# Altium footprint library RectangularConnectors.PcbLib: 154 footprints (part 2 of 10)
Each footprint in its own frame and in the unit in brackets; x right, y up, seen from the top. Pads: shape width x height; smd on the part's side, far side on the other; paste and mask are expansions set on the pad; w line width, h text height; cw(c..) or ccw(c..) is an arc to the next point about the centre after c.
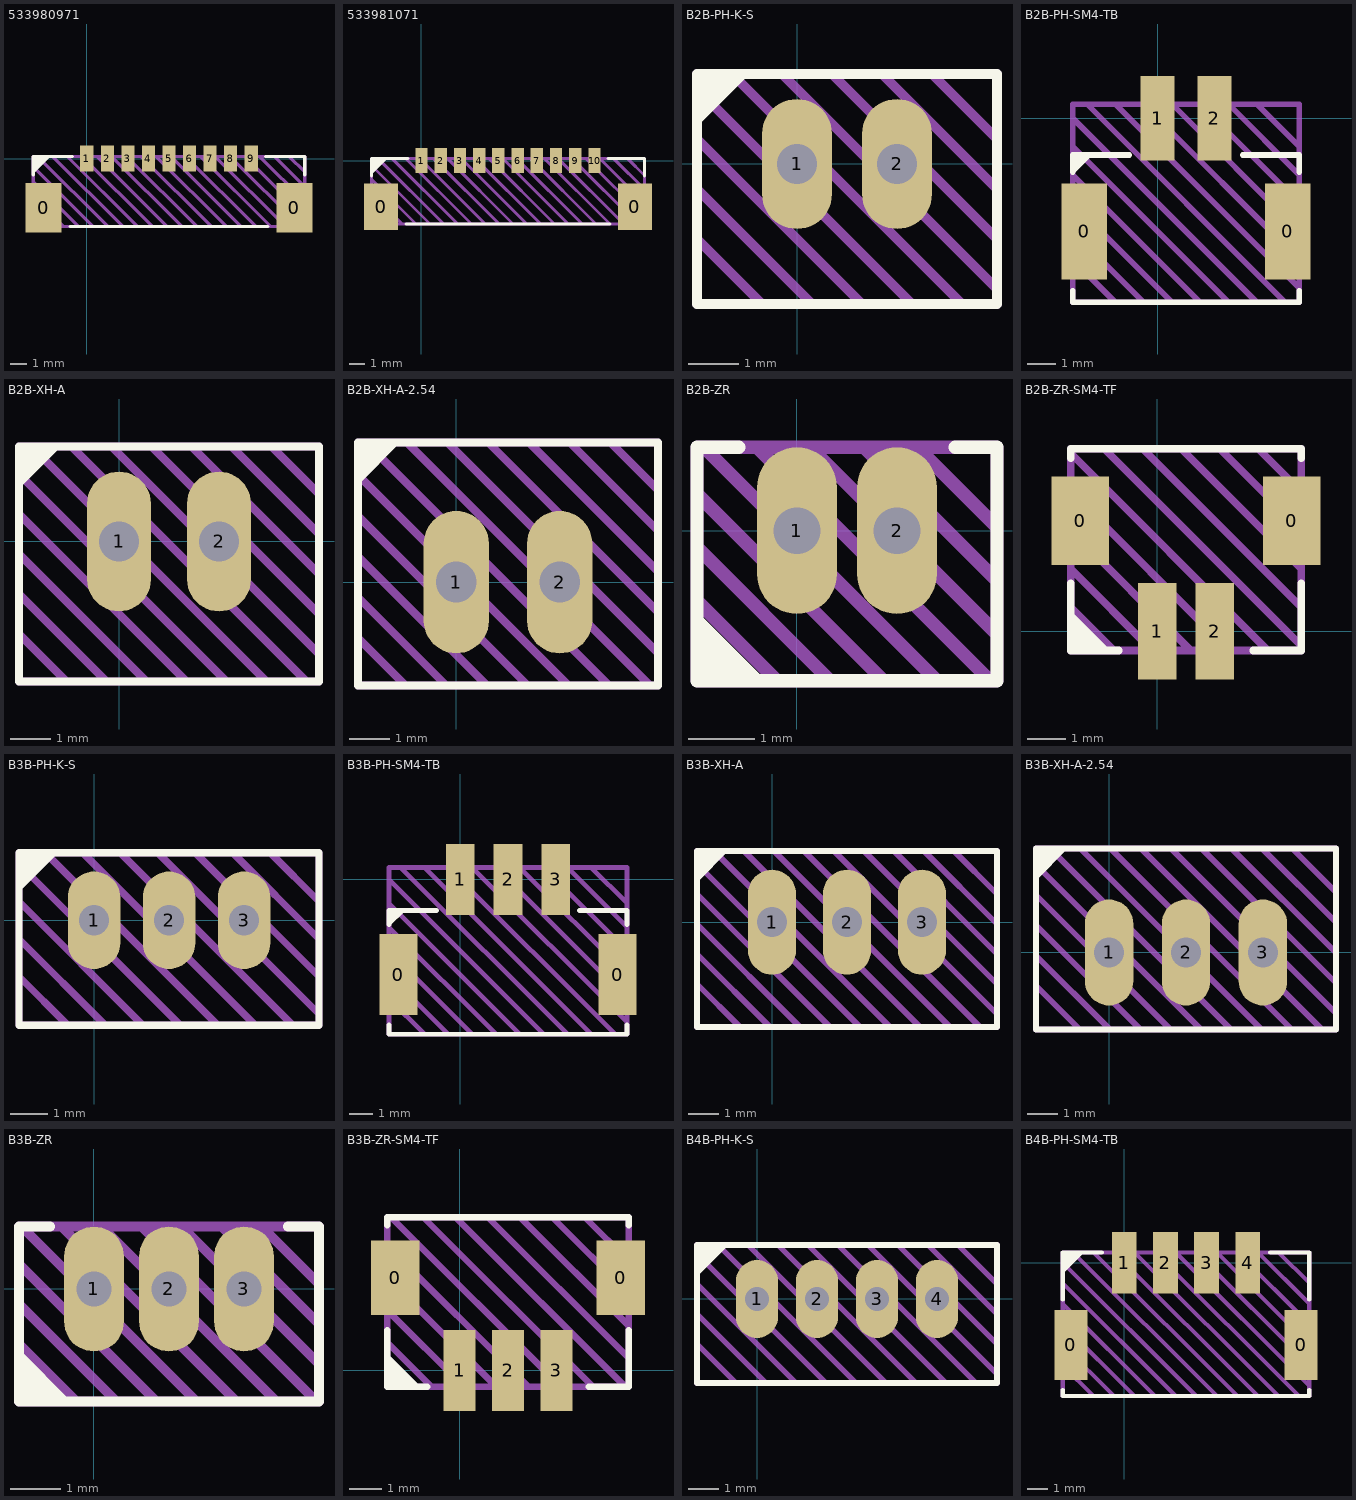
[diagram p1: the footprints below, top view; thin cyan lines are the x and y axes]

## 533980971 [mm] "Molex PicoBlade 1.25mm Straight"
pads (11):
  rect 2.2x3 smd: 0(-2.625,-3) 0(12.625,-3)
  rect 0.8x1.6 smd: 1(0,0) 2(1.25,0) 3(2.5,0) 4(3.75,0) 5(5,0) 6(6.25,0) 7(7.5,0) 8(8.75,0) 9(10,0)
Top Overlay:
  region: -3.25,-0.915 -2.21,0.125 -3.25,0.125
  lines w0.2: -3.25,-1 -3.25,0.125 -0.875,0.125 ; -1,-4.125 11,-4.125 ; 10.875,0.125 13.25,0.125 13.25,-1
Top Draw:
  lines w0.2: -3.25,-3.2 -2.325,-4.125 ; -3.25,-2.3 -1.425,-4.125 ; -3.25,-1.4 -0.525,-4.125 ; -3.25,-0.5 0.375,-4.125 ; -2.975,0.125 1.275,-4.125 ; -2.075,0.125 2.175,-4.125 ; -1.175,0.125 3.075,-4.125 ; -0.275,0.125 3.975,-4.125 ; 0.625,0.125 4.875,-4.125 ; 1.525,0.125 5.775,-4.125 ; 2.425,0.125 6.675,-4.125 ; 3.325,0.125 7.575,-4.125 ; 4.225,0.125 8.475,-4.125 ; 5.125,0.125 9.375,-4.125 ; 6.025,0.125 10.275,-4.125 ; 6.925,0.125 11.175,-4.125 ; 7.825,0.125 12.075,-4.125 ; 8.725,0.125 12.975,-4.125 ; 9.625,0.125 13.25,-3.5 ; 10.525,0.125 13.25,-2.6 ; 11.425,0.125 13.25,-1.7 ; 12.325,0.125 13.25,-0.8 ; -3.25,-4.125 -3.25,0.125 13.25,0.125 13.25,-4.125 -3.25,-4.125
Top Info:
  text "'.Comment'" at 1.814,-5.687 h0.75
3D body "533980971.step": height 4.7, standoff 0, extent -3.2,-4.075 13.2,0.125

## 533981071 [mm] "Molex PicoBlade 1.25mm Straight"
pads (12):
  rect 2.2x3 smd: 0(-2.625,-3) 0(13.875,-3)
  rect 0.8x1.6 smd: 1(0,0) 2(1.25,0) 3(2.5,0) 4(3.75,0) 5(5,0) 6(6.25,0) 7(7.5,0) 8(8.75,0) 9(10,0) 10(11.25,0)
Top Overlay:
  region: -3.25,-0.915 -2.21,0.125 -3.25,0.125
  lines w0.2: -3.25,-1 -3.25,0.125 -0.875,0.125 ; -1,-4.125 12.25,-4.125 ; 12.125,0.125 14.5,0.125 14.5,-1
Top Draw:
  lines w0.2: -3.25,-3.025 -2.15,-4.125 ; -3.25,-2.125 -1.25,-4.125 ; -3.25,-1.225 -0.35,-4.125 ; -3.25,-0.325 0.55,-4.125 ; -2.8,0.125 1.45,-4.125 ; -1.9,0.125 2.35,-4.125 ; -1,0.125 3.25,-4.125 ; -0.1,0.125 4.15,-4.125 ; 0.8,0.125 5.05,-4.125 ; 1.7,0.125 5.95,-4.125 ; 2.6,0.125 6.85,-4.125 ; 3.5,0.125 7.75,-4.125 ; 4.4,0.125 8.65,-4.125 ; 5.3,0.125 9.55,-4.125 ; 6.2,0.125 10.45,-4.125 ; 7.1,0.125 11.35,-4.125 ; 8,0.125 12.25,-4.125 ; 8.9,0.125 13.15,-4.125 ; 9.8,0.125 14.05,-4.125 ; 10.7,0.125 14.5,-3.675 ; 11.6,0.125 14.5,-2.775 ; 12.5,0.125 14.5,-1.875 ; 13.4,0.125 14.5,-0.975 ; -3.25,-4.125 14.5,-4.125 14.5,0.125 -3.25,0.125 -3.25,-4.125
Top Info:
  text "'.Comment'" at 2.439,-5.687 h0.75
3D body "533981071.step": height 4.7, standoff 0, extent -3.2,-4.075 14.45,0.125

## B2B-PH-K-S [mm] "PH2.0 PTH Straight"
pads (2):
  oval 1.4x2.6 hole 0.8: 1(0,0) 2(2,0)
Top Overlay:
  region: -2,0.76 -0.96,1.8 -2,1.8
  lines w0.2: -2,-2.8 4,-2.8 4,1.8 -2,1.8 -2,-2.8
Top Draw:
  lines w0.2: -2,-1.5 -0.7,-2.8 ; -2,-0.5 0.3,-2.8 ; -2,0.5 1.3,-2.8 ; -2,1.5 2.3,-2.8 ; -1.3,1.8 3.3,-2.8 ; -0.3,1.8 4,-2.5 ; 0.7,1.8 4,-1.5 ; 1.7,1.8 4,-0.5 ; 2.7,1.8 4,0.5 ; -2,-2.8 4,-2.8 4,1.8 -2,1.8 -2,-2.8
Top Info:
  text "'.Comment'" at -3.249,-4.283 h1
3D body "B2B-PH-K-S.stp": height 6.02, standoff -3.38, extent -1.95,-2.8 3.95,1.8

## B2B-PH-SM4-TB [mm] "PH2.0 SMT Straight"
pads (4):
  rect 1.6x3.4 smd: 0(-2.6,-4) 0(4.6,-4)
  rect 1.2x3 smd: 1(0,0) 2(2,0)
Top Overlay:
  region: -3,-1.995 -2.305,-1.3 -3,-1.3
  lines w0.2: -3,-6.1 -3,-6.5 5,-6.5 5,-6.1 ; -3,-1.9 -3,-1.3 -1,-1.3 ; 3,-1.3 5,-1.3 5,-1.9
Top Draw:
  lines w0.2: -3,-5 -1.5,-6.5 ; -3,-4 -0.5,-6.5 ; -3,-3 0.5,-6.5 ; -3,-2 1.5,-6.5 ; -3,-1 2.5,-6.5 ; -3,0 3.5,-6.5 ; -2.5,0.5 4.5,-6.5 ; -1.5,0.5 5,-6 ; -0.5,0.5 5,-5 ; 0.5,0.5 5,-4 ; 1.5,0.5 5,-3 ; 2.5,0.5 5,-2 ; 3.5,0.5 5,-1 ; -3,-6.5 5,-6.5 5,0.5 -3,0.5 -3,-6.5
Top Info:
  text "'.Comment'" at -3.249,-7.983 h1
3D body "B2B-PH-SM4-TB.step": height 6.62, standoff 0.02, extent -2.975,-6.5 4.975,0.5

## B2B-XH-A [mm] "XH2.5 PTH Straight"
pads (2):
  oval 1.6x3.5 hole 1: 1(0,0) 2(2.5,0)
Top Overlay:
  region: -2.5,1.335 -1.46,2.375 -2.5,2.375
  lines w0.2: -2.5,-3.5 -2.5,2.375 5,2.375 5,-3.5 -2.5,-3.5
Top Draw:
  lines w0.2: -2.5,-2.313 -1.313,-3.5 ; -2.5,-1.313 -0.313,-3.5 ; -2.5,-0.313 0.687,-3.5 ; -2.5,0.687 1.687,-3.5 ; -2.5,1.687 2.687,-3.5 ; -2.187,2.375 3.688,-3.5 ; -1.188,2.375 4.687,-3.5 ; -0.187,2.375 5,-2.813 ; 0.813,2.375 5,-1.812 ; 1.813,2.375 5,-0.813 ; 2.813,2.375 5,0.188 ; 3.813,2.375 5,1.188 ; -2.5,-3.5 -2.5,2.375 5,2.375 5,-3.5 -2.5,-3.5
Top Info:
  text "'.Comment'" at -2.999,-4.958 h1
3D body "B2B-XH-A.step": height 7.02, standoff -3.48, extent -2.45,-3.4 4.95,2.35

## B2B-XH-A-2.54 [mm] "XH2.54 PTH Straight"
pads (2):
  oval 1.6x3.5 hole 1: 1(0,0) 2(2.54,0)
Top Overlay:
  region: -2.413,2.389 -1.373,3.429 -2.413,3.429
  lines w0.2: -2.413,-2.54 -2.413,3.429 4.953,3.429 4.953,-2.54 -2.413,-2.54
Top Draw:
  lines w0.2: -2.413,-1.373 -1.246,-2.54 ; -2.413,-0.373 -0.246,-2.54 ; -2.413,0.627 0.754,-2.54 ; -2.413,1.627 1.754,-2.54 ; -2.413,2.627 2.754,-2.54 ; -2.214,3.429 3.755,-2.54 ; -1.215,3.429 4.754,-2.54 ; -0.214,3.429 4.953,-1.738 ; 0.786,3.429 4.953,-0.738 ; 1.786,3.429 4.953,0.262 ; 2.786,3.429 4.953,1.262 ; 3.786,3.429 4.953,2.262 ; -2.413,-2.54 4.953,-2.54 4.953,3.429 -2.413,3.429 -2.413,-2.54
Top Info:
  text "'.Comment'" at -2.979,-4.012 h1
3D body "JST - XH - Thru (V) - 2Pin - 2.54mm.stp": height 7.21, standoff -3, extent -2.337,-2.489 4.877,3.353

## B2B-ZR [mm] "ZH1.5 PTH Straight"
pads (2):
  oval 1.2x2.5 hole 0.7: 1(0,0) 2(1.5,0)
Top Overlay:
  region: -0.46,-2.25 -1.5,-1.21 -1.5,-2.25
  lines w0.2: -0.875,1.25 -1.5,1.25 -1.5,-2.25 3,-2.25 3,1.25 2.375,1.25
Top Draw:
  lines w0.2: -1.5,-1.05 -0.3,-2.25 ; -1.5,-0.25 0.5,-2.25 ; -1.5,0.55 1.3,-2.25 ; -1.4,1.25 2.1,-2.25 ; -0.6,1.25 2.9,-2.25 ; 0.2,1.25 3,-1.55 ; 1,1.25 3,-0.75 ; 1.8,1.25 3,0.05 ; -1.5,-2.25 -1.5,1.25 3,1.25 3,-2.25 -1.5,-2.25
Top Info:
  text "'.Comment'" at -2.436,-3.437 h0.75
3D body "B2B-ZR.step": height 4.52, standoff -2.68, extent -1.5,-2.2 3,1.3

## B2B-ZR-SM4-TF [mm] "ZH1.5 SMT Straight"
pads (4):
  rect 1.5x2.3 smd: 0(-2,2.875) 0(3.5,2.875)
  rect 1x2.5 smd: 1(0,0) 2(1.5,0)
Top Overlay:
  region: -1.21,-0.5 -2.25,0.54 -2.25,-0.5
  lines w0.2: -2.25,1.25 -2.25,-0.5 -1,-0.5 ; -2.25,4.5 -2.25,4.75 3.75,4.75 3.75,4.5 ; 2.5,-0.5 3.75,-0.5 3.75,1.25
Top Draw:
  lines w0.2: -2.25,0.625 -1.125,-0.5 ; -2.25,1.625 -0.125,-0.5 ; -2.25,2.625 0.875,-0.5 ; -2.25,3.625 1.875,-0.5 ; -2.25,4.625 2.875,-0.5 ; -1.375,4.75 3.75,-0.375 ; -0.375,4.75 3.75,0.625 ; 0.625,4.75 3.75,1.625 ; 1.625,4.75 3.75,2.625 ; 2.625,4.75 3.75,3.625 ; -2.25,-0.5 -2.25,4.75 3.75,4.75 3.75,-0.5 -2.25,-0.5
Top Info:
  text "'.Comment'" at -2.436,-2.437 h0.75
3D body "B2B-ZR-SM4-TF.step": height 5.02, standoff 0.02, extent -2.25,-0.5 3.75,4.7

## B3B-PH-K-S [mm] "PH2.0 PTH Straight"
pads (3):
  oval 1.4x2.6 hole 0.8: 1(0,0) 2(2,0) 3(4,0)
Top Overlay:
  region: -2,0.76 -0.96,1.8 -2,1.8
  lines w0.2: -2,-2.8 -2,1.8 6,1.8 6,-2.8 -2,-2.8
Top Draw:
  lines w0.2: -2,-1.5 -0.7,-2.8 ; -2,-0.5 0.3,-2.8 ; -2,0.5 1.3,-2.8 ; -2,1.5 2.3,-2.8 ; -1.3,1.8 3.3,-2.8 ; -0.3,1.8 4.3,-2.8 ; 0.7,1.8 5.3,-2.8 ; 1.7,1.8 6,-2.5 ; 2.7,1.8 6,-1.5 ; 3.7,1.8 6,-0.5 ; 4.7,1.8 6,0.5 ; -2,-2.8 -2,1.8 6,1.8 6,-2.8 -2,-2.8
Top Info:
  text "'.Comment'" at -2.249,-4.283 h1
3D body "B3B-PH-K-S.stp": height 6.02, standoff -3.38, extent -1.95,-2.8 5.95,1.8

## B3B-PH-SM4-TB [mm] "PH2.0 SMT Straight"
pads (5):
  rect 1.6x3.4 smd: 0(-2.6,-4) 0(6.6,-4)
  rect 1.2x3 smd: 1(0,0) 2(2,0) 3(4,0)
Top Overlay:
  region: -3,-1.995 -2.305,-1.3 -3,-1.3
  lines w0.2: -3,-6.1 -3,-6.5 7,-6.5 7,-6.1 ; -3,-1.9 -3,-1.3 -1,-1.3 ; 5,-1.3 7,-1.3 7,-1.9
Top Draw:
  lines w0.2: -3,-5 -1.5,-6.5 ; -3,-4 -0.5,-6.5 ; -3,-3 0.5,-6.5 ; -3,-2 1.5,-6.5 ; -3,-1 2.5,-6.5 ; -3,0 3.5,-6.5 ; -2.5,0.5 4.5,-6.5 ; -1.5,0.5 5.5,-6.5 ; -0.5,0.5 6.5,-6.5 ; 0.5,0.5 7,-6 ; 1.5,0.5 7,-5 ; 2.5,0.5 7,-4 ; 3.5,0.5 7,-3 ; 4.5,0.5 7,-2 ; 5.5,0.5 7,-1 ; -3,-6.5 7,-6.5 7,0.5 -3,0.5 -3,-6.5
Top Info:
  text "'.Comment'" at -2.249,-7.983 h1
3D body "B3B-PH-SM4-TB.step": height 6.62, standoff 0.02, extent -2.975,-6.5 6.975,0.5

## B3B-XH-A [mm] "XH2.5 PTH Straight"
pads (3):
  oval 1.6x3.5 hole 1: 1(0,0) 2(2.5,0) 3(5,0)
Top Overlay:
  region: -2.5,1.335 -1.46,2.375 -2.5,2.375
  lines w0.2: -2.5,-3.5 -2.5,2.375 7.5,2.375 7.5,-3.5 -2.5,-3.5
Top Draw:
  lines w0.2: -2.5,-2.063 -1.063,-3.5 ; -2.5,-1.063 -0.063,-3.5 ; -2.5,-0.063 0.937,-3.5 ; -2.5,0.937 1.937,-3.5 ; -2.5,1.937 2.937,-3.5 ; -1.938,2.375 3.937,-3.5 ; -0.937,2.375 4.938,-3.5 ; 0.062,2.375 5.937,-3.5 ; 1.063,2.375 6.938,-3.5 ; 2.063,2.375 7.5,-3.062 ; 3.063,2.375 7.5,-2.063 ; 4.063,2.375 7.5,-1.062 ; 5.063,2.375 7.5,-0.062 ; 6.063,2.375 7.5,0.938 ; -2.5,-3.5 -2.5,2.375 7.5,2.375 7.5,-3.5 -2.5,-3.5
Top Info:
  text "'.Comment'" at -1.749,-4.958 h1
3D body "B3B-XH-A.step": height 7.02, standoff -3.48, extent -2.45,-3.4 7.45,2.35

## B3B-XH-A-2.54 [mm] "XH2.54 PTH Straight"
pads (3):
  oval 1.6x3.5 hole 1: 1(0,0) 2(2.54,0) 3(5.08,0)
Top Overlay:
  region: -2.413,2.389 -1.373,3.429 -2.413,3.429
  lines w0.2: -2.413,-2.54 7.493,-2.54 7.493,3.429 -2.413,3.429 -2.413,-2.54
Top Draw:
  lines w0.2: -2.413,-1.103 -0.976,-2.54 ; -2.413,-0.103 0.024,-2.54 ; -2.413,0.897 1.024,-2.54 ; -2.413,1.897 2.024,-2.54 ; -2.413,2.897 3.024,-2.54 ; -1.945,3.429 4.024,-2.54 ; -0.944,3.429 5.025,-2.54 ; 0.055,3.429 6.024,-2.54 ; 1.056,3.429 7.025,-2.54 ; 2.056,3.429 7.493,-2.008 ; 3.056,3.429 7.493,-1.008 ; 4.056,3.429 7.493,-0.008 ; 5.056,3.429 7.493,0.992 ; 6.056,3.429 7.493,1.992 ; -2.413,-2.54 7.493,-2.54 7.493,3.429 -2.413,3.429 -2.413,-2.54
Top Info:
  text "'.Comment'" at -1.709,-4.012 h1
3D body "JST - XH - Thru (V) - 3Pin - 2.54mm.stp": height 7.21, standoff -3, extent -2.337,-2.489 7.417,3.353

## B3B-ZR [mm] "ZH1.5 PTH Straight"
pads (3):
  oval 1.2x2.5 hole 0.7: 1(0,0) 2(1.5,0) 3(3,0)
Top Overlay:
  region: -0.46,-2.25 -1.5,-1.21 -1.5,-2.25
  lines w0.2: -0.875,1.25 -1.5,1.25 -1.5,-2.25 4.5,-2.25 4.5,1.25 3.875,1.25
Top Draw:
  lines w0.2: -1.5,-1.1 -0.35,-2.25 ; -1.5,-0.3 0.45,-2.25 ; -1.5,0.5 1.25,-2.25 ; -1.45,1.25 2.05,-2.25 ; -0.65,1.25 2.85,-2.25 ; 0.15,1.25 3.65,-2.25 ; 0.95,1.25 4.45,-2.25 ; 1.75,1.25 4.5,-1.5 ; 2.55,1.25 4.5,-0.7 ; 3.35,1.25 4.5,0.1 ; -1.5,-2.25 -1.5,1.25 4.5,1.25 4.5,-2.25 -1.5,-2.25
Top Info:
  text "'.Comment'" at -1.686,-3.437 h0.75
3D body "B3B-ZR.step": height 4.52, standoff -2.68, extent -1.5,-2.2 4.5,1.3

## B3B-ZR-SM4-TF [mm] "ZH1.5 SMT Straight"
pads (5):
  rect 1.5x2.3 smd: 0(-2,2.875) 0(5,2.875)
  rect 1x2.5 smd: 1(0,0) 2(1.5,0) 3(3,0)
Top Overlay:
  region: -1.21,-0.5 -2.25,0.54 -2.25,-0.5
  lines w0.2: -2.25,1.25 -2.25,-0.5 -1,-0.5 ; -2.25,4.5 -2.25,4.75 5.25,4.75 5.25,4.5 ; 4,-0.5 5.25,-0.5 5.25,1.25
Top Draw:
  lines w0.2: -2.25,0.875 -0.875,-0.5 ; -2.25,1.875 0.125,-0.5 ; -2.25,2.875 1.125,-0.5 ; -2.25,3.875 2.125,-0.5 ; -2.125,4.75 3.125,-0.5 ; -1.125,4.75 4.125,-0.5 ; -0.125,4.75 5.125,-0.5 ; 0.875,4.75 5.25,0.375 ; 1.875,4.75 5.25,1.375 ; 2.875,4.75 5.25,2.375 ; 3.875,4.75 5.25,3.375 ; -2.25,-0.5 5.25,-0.5 5.25,4.75 -2.25,4.75 -2.25,-0.5
Top Info:
  text "'.Comment'" at -1.686,-2.437 h0.75
3D body "B3B-ZR-SM4-TF.step": height 5.02, standoff 0.02, extent -2.25,-0.5 5.25,4.7

## B4B-PH-K-S [mm] "PH2.0 PTH Straight"
pads (4):
  oval 1.4x2.6 hole 0.8: 1(0,0) 2(2,0) 3(4,0) 4(6,0)
Top Overlay:
  region: -2,0.76 -0.96,1.8 -2,1.8
  lines w0.2: -2,-2.8 -2,1.8 8,1.8 8,-2.8 -2,-2.8
Top Draw:
  lines w0.2: -2,-1.5 -0.7,-2.8 ; -2,-0.5 0.3,-2.8 ; -2,0.5 1.3,-2.8 ; -2,1.5 2.3,-2.8 ; -1.3,1.8 3.3,-2.8 ; -0.3,1.8 4.3,-2.8 ; 0.7,1.8 5.3,-2.8 ; 1.7,1.8 6.3,-2.8 ; 2.7,1.8 7.3,-2.8 ; 3.7,1.8 8,-2.5 ; 4.7,1.8 8,-1.5 ; 5.7,1.8 8,-0.5 ; 6.7,1.8 8,0.5 ; -2,-2.8 -2,1.8 8,1.8 8,-2.8 -2,-2.8
Top Info:
  text "'.Comment'" at -1.249,-4.283 h1
3D body "B4B-PH-K-S.stp": height 6.02, standoff -3.38, extent -1.95,-2.8 7.95,1.8

## B4B-PH-SM4-TB [mm] "PH2.0 SMT Straight"
pads (6):
  rect 1.6x3.4 smd: 0(-2.6,-4) 0(8.6,-4)
  rect 1.2x3 smd: 1(0,0) 2(2,0) 3(4,0) 4(6,0)
Top Overlay:
  region: -3,-0.54 -1.96,0.5 -3,0.5
  lines w0.2: -3,-6.2 -3,-6.5 9,-6.5 9,-6.2 ; -3,-1.8 -3,0.5 -1.1,0.5 ; 7.1,0.5 9,0.5 9,-1.8
Top Draw:
  lines w0.2: -3,-5 -1.5,-6.5 ; -3,-4 -0.5,-6.5 ; -3,-3 0.5,-6.5 ; -3,-2 1.5,-6.5 ; -3,-1 2.5,-6.5 ; -3,0 3.5,-6.5 ; -2.5,0.5 4.5,-6.5 ; -1.5,0.5 5.5,-6.5 ; -0.5,0.5 6.5,-6.5 ; 0.5,0.5 7.5,-6.5 ; 1.5,0.5 8.5,-6.5 ; 2.5,0.5 9,-6 ; 3.5,0.5 9,-5 ; 4.5,0.5 9,-4 ; 5.5,0.5 9,-3 ; 6.5,0.5 9,-2 ; 7.5,0.5 9,-1 ; -3,-6.5 -3,0.5 9,0.5 9,-6.5 -3,-6.5
Top Info:
  text "'.Comment'" at -1.249,-7.983 h1
3D body "B4B-PH-SM4-TB.step": height 6.62, standoff 0.02, extent -2.975,-6.5 8.975,0.5